# EAGLE library part LOGIC-74*245 (library eagleLib v2)
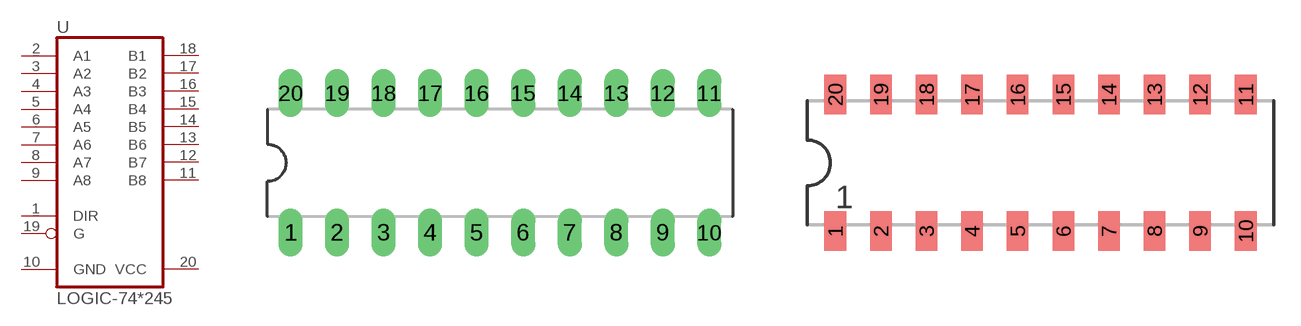
[diagram p55: symbol with the pads of DIL20; footprints DIL20, DIP20]

Designator prefix -

## LOGIC-74245-D  [DIL20]
1  DIR  in
2  A1
3  A2
4  A3
5  A4
6  A5
7  A6
8  A7
9  A8
10  GND  in
11  B8
12  B7
13  B6
14  B5
15  B4
16  B3
17  B2
18  B1
19  G  in
20  VCC  in

## LOGIC-74245-DP  [DIP20]
Pads as for DIL20

## LOGIC-74245-SW  [SO20W]
Pads as for DIL20

## LOGIC-74245  [TSSOP20]
Pads as for DIL20

## Footprint DIL20 (pad centres in mm)
Dual In Line Package
drill 0.813 long: 1 -11.43,-3.81; 2 -8.89,-3.81; 3 -6.35,-3.81; 4 -3.81,-3.81; 5 -1.27,-3.81; 6 1.27,-3.81; 7 3.81,-3.81; 8 6.35,-3.81; 9 8.89,-3.81; 10 11.43,-3.81; 11 11.43,3.81; 12 8.89,3.81; 13 6.35,3.81; 14 3.81,3.81; 15 1.27,3.81; 16 -1.27,3.81; 17 -3.81,3.81; 18 -6.35,3.81; 19 -8.89,3.81; 20 -11.43,3.81

## Footprint DIP20 (pad centres in mm)
SMD DIL20 dual in line package
smd 1.2 x 2.2: 1 -11.43,-3.8; 2 -8.89,-3.8; 3 -6.35,-3.8; 4 -3.81,-3.8; 5 -1.27,-3.8; 6 1.27,-3.8; 7 3.81,-3.8; 8 6.35,-3.8; 9 8.89,-3.8; 10 11.43,-3.8; 11 11.43,3.8; 12 8.89,3.8; 13 6.35,3.8; 14 3.81,3.8; 15 1.27,3.8; 16 -1.27,3.8; 17 -3.81,3.8; 18 -6.35,3.8; 19 -8.89,3.8; 20 -11.43,3.8

## Footprint SO20W (pad centres in mm)
SMALL OUTLINE INTEGRATED CIRCUIT wide body 7.5 mm/JEDEC MS-013AC
smd 0.6 x 2.2: 1 -5.715,-4.6; 2 -4.445,-4.6; 3 -3.175,-4.6; 4 -1.905,-4.6; 5 -0.635,-4.6; 6 0.635,-4.6; 7 1.905,-4.6; 8 3.175,-4.6; 9 4.445,-4.6; 10 5.715,-4.6; 11 5.715,4.6; 12 4.445,4.6; 13 3.175,4.6; 14 1.905,4.6; 15 0.635,4.6; 16 -0.635,4.6; 17 -1.905,4.6; 18 -3.175,4.6; 19 -4.445,4.6; 20 -5.715,4.6

## Footprint TSSOP20 (pad centres in mm)
Thin Shrink Small Outline Plastic 20 MAX3223-MAX3243.pdf
smd 0.305 x 0.991: 1 -2.925,-2.918; 2 -2.275,-2.918; 3 -1.625,-2.918; 4 -0.975,-2.918; 5 -0.325,-2.918; 6 0.325,-2.918; 7 0.975,-2.918; 8 1.625,-2.918; 9 2.275,-2.918; 10 2.925,-2.918; 11 2.925,2.918; 12 2.275,2.918; 13 1.625,2.918; 14 0.975,2.918; 15 0.325,2.918; 16 -0.325,2.918; 17 -0.975,2.918; 18 -1.625,2.918; 19 -2.275,2.918; 20 -2.925,2.918